# EAGLE library part IR21271SPBF (library International_Rectifier_By_element14_Batch_1)
Current Sensing Single Channel Driver
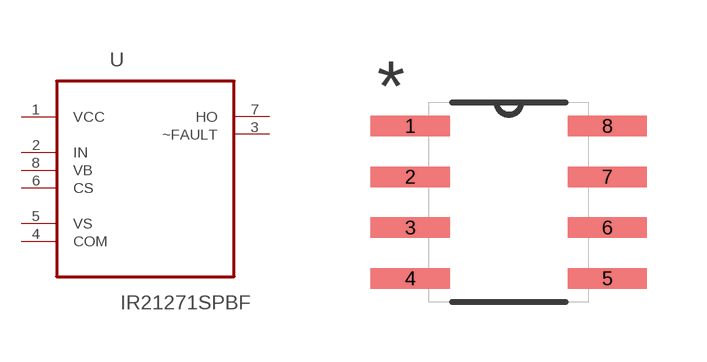
[diagram p60: symbol with the pads of SOIC127P600X175-8N; footprint SOIC127P600X175-8N]

Designator prefix U

## IR21271SPBF (MPN: IR21271SPBF; OC_FARNELL: 8638900; OC_NEWARK: 63J7873; PACKAGE: SOIC-8; SUPPLIER: INTERNATIONAL RECTIFIER)  [SOIC127P600X175-8N]
1  VCC  pwr
2  IN  in
3  ~FAULT  out
4  COM  pas
5  VS  pwr
6  CS  in
7  HO  out
8  VB  pwr

## Footprint SOIC127P600X175-8N (pad centres in mm)
smd 1.981 x 0.508: 1 -2.464,1.905; 2 -2.464,0.635; 3 -2.464,-0.635; 4 -2.464,-1.905; 5 2.464,-1.905; 6 2.464,-0.635; 7 2.464,0.635; 8 2.464,1.905